# Altium footprint library PCB - CONNECTOR - WURTH - WURTH 691322110005.PcbLib: 1 footprints
Each footprint in its own frame and in the unit in brackets; x right, y up, seen from the top. Pads: shape width x height; smd on the part's side, far side on the other; paste and mask are expansions set on the pad; w line width, h text height; cw(c..) or ccw(c..) is an arc to the next point about the centre after c.
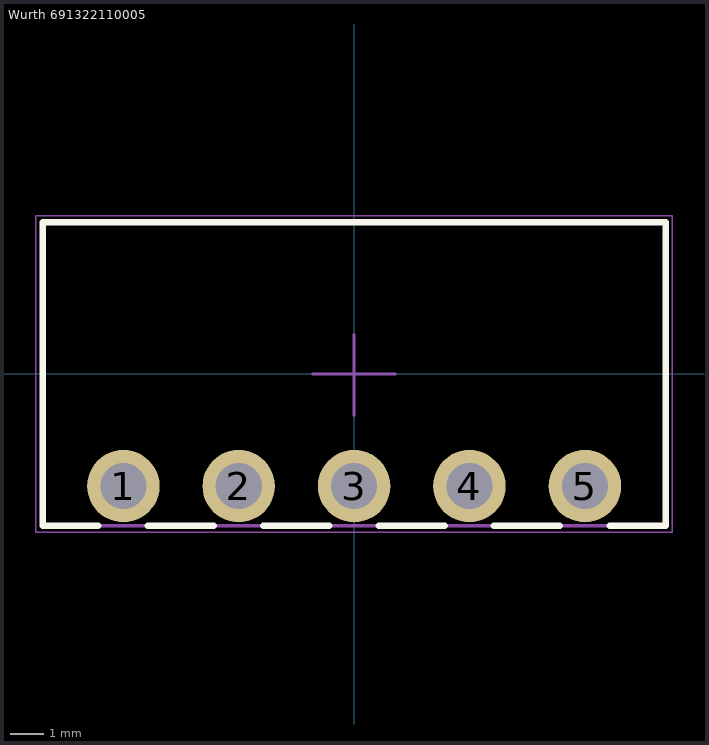
[diagram p0: the footprint, top view; thin cyan lines are the x and y axes]

## Wurth 691322110005 [mm] "5 Position Terminal Block Header, Male Pins, 3.5mm Pitch,18.9x9.2mm Body, 90°, Right Angle, THT"
height 7.4
pads (5):
  round 2.2 hole 1.4: 1(-7,-3.4) 2(-3.5,-3.4) 3(0,-3.4) 4(3.5,-3.4) 5(7,-3.4)
Top Overlay:
  lines w0.2: -7.755,-4.6 -9.45,-4.6 -9.45,4.6 9.45,4.6 9.45,-4.6 7.755,-4.6 ; -6.255,-4.6 -4.255,-4.6 ; -2.75,-4.6 -0.75,-4.6 ; 0.755,-4.6 2.755,-4.6 ; 4.245,-4.6 6.245,-4.6
Mechanical 13:
  lines w0.1: -9.45,-4.6 9.45,-4.6 9.45,4.6 -9.45,4.6 -9.45,-4.6
Mechanical 15 (Mech15):
  lines w0.05: -9.655,-4.8 -9.655,4.8 9.65,4.8 9.65,-4.8 -9.655,-4.8
  lines w0.1: -1.25,0 0,0 ; 0,-1.25 0,0 ; 0,1.2 0,0 ; 1.25,0 0,0
3D body "Würth Elektronik - 691322110005 v1.step": height 7.2, standoff -3.5, extent -9.45,-4.6 9.45,4.6